# Altium schematic symbol library SCH - ANNOTATION - PROJECT REVISON.SCHLIB: 1 symbol
Pins are listed as number, name and electrical type; pins without a type are passive.

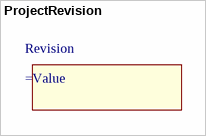
[diagram p0: symbol ProjectRevision]

## ProjectRevision
designator Revision  (no BOM)